# EAGLE library part TSW-S-12_S (library con-samtec-tsw)
HEADER
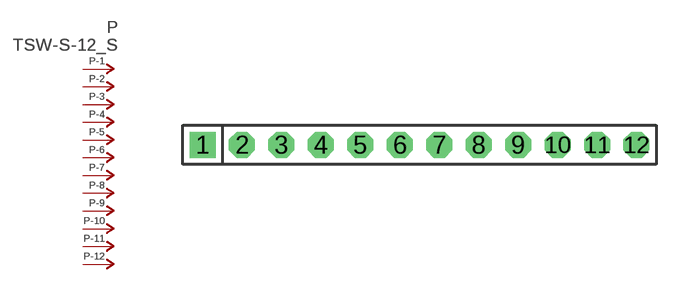
[diagram p51: symbol with the pads of TSW-S-12; footprint TSW-S-12]

Designator prefix P; gates -1=P-NV -2=P-N -3=P-N -4=P-N -5=P-N -6=P-N -7=P-N -8=P-N -9=P-N -10=P-N -11=P-N -12=P-N

## TSW-S-12_S  [TSW-S-12]
1  -1:P  pas
2  -2:P  pas
3  -3:P  pas
4  -4:P  pas
5  -5:P  pas
6  -6:P  pas
7  -7:P  pas
8  -8:P  pas
9  -9:P  pas
10  -10:P  pas
11  -11:P  pas
12  -12:P  pas

## Footprint TSW-S-12 (pad centres in mm)
HEADER
drill 0.914 pad 1.676 square: 1 -13.97,0
drill 0.914 pad 1.676 octagon: 2 -11.43,0; 3 -8.89,0; 4 -6.35,0; 5 -3.81,0; 6 -1.27,0; 7 1.27,0; 8 3.81,0; 9 6.35,0; 10 8.89,0; 11 11.43,0; 12 13.97,0